# Altium integrated library dreamViewMotionRelease.IntLib: 24 symbols
Pins are listed as number, name and electrical type; pins without a type are passive.

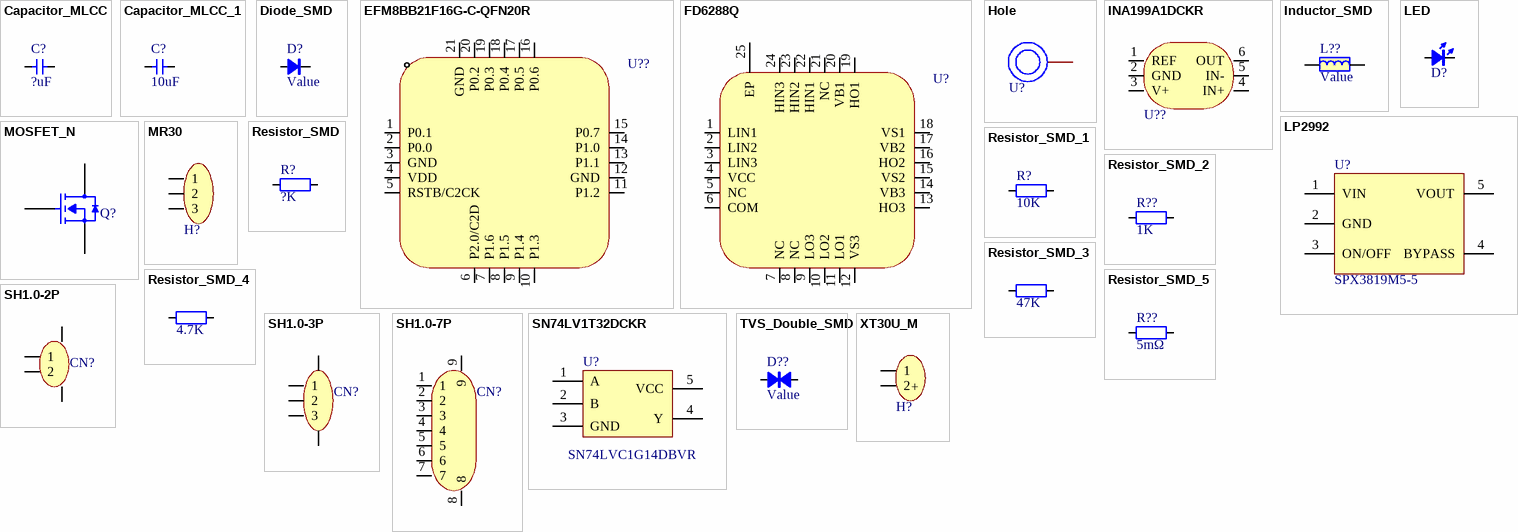
[diagram p0: symbols Capacitor_MLCC to XT30U_M]

## Capacitor_MLCC
designator C?, comment ?uF
Capacitor_MLCC
footprint CAP_0402
footprint CAP_1206
pins: 1, 2

## Capacitor_MLCC_1
designator C?, comment 10uF
Capacitor_MLCC
footprint CAP_0402
footprint CAP_1206
pins: 1, 2

## Diode_SMD
designator D?, comment Value
Diode_SMD; Value: color?
footprint SOD_323
footprint SMA
footprint SMBJ-CA_MFG (无极性SMB)
pins: 1 A, 2 K

## EFM8BB21F16G-C-QFN20R
designator U??  (value not drawn)
CPU内核:51系列;CPU最大主频:50MHz;工作电压范围:2.2V~3.6V;内部振荡器:有;程序 FLASH容量:16K@x8bit;RAM总容量:2.25KB;EEPROM/数据 FLASH容量:-;GPIO端口数量:16;ADC(单元数/通道数/位数):1@x15ch/12bit;外设/功能/协议栈:欠压检测/复位；看门狗；POR；PWM;工作温度范围:-40℃~+85℃;; Manufacturer: SILICON LABS(芯科); Add into BOM: yes; CPU Core: 51系列; Maximum Frequency: 50MHz; Internal Oscillator: 有; RAM Size: 2.25KB; GPIO Ports Number: 16; Name: EFM8BB21F16G-C-QFN20R; Symbol: EFM8BB21F16G-C-QFN20; Device: EFM8BB21F16G-C-QFN20R; LCSC Part Name: 51系列 50MHz 闪存：16K@x8bit RAM：2.25KB; Supplier Part: C80713; Manufacturer Part: EFM8BB21F16G-C-QFN20R; Supplier Footprint: QFN-20; JLCPCB Part Class: 扩展库; Datasheet: https://atta.szlcsc.com/upload/public/pdf/source/20160823/1471947533781.pdf; Supplier: LCSC; Convert to PCB: yes; Supply Voltage Range: 2.2V~3.6V; Program FLASH Size: 16K@x8bit; EEPROM/Data FLASH Size: -; ADC (Units/Channels/bits): 1@x15ch/12bit; Peripherals / Functions / Protocol Stacks: 欠压检测/复位；看门狗；POR；PWM; Operating Temperature Range: -40℃~+85℃
footprint QFN-20_L3.0-W3.0-P0.50-BL-EP1.7_EFM8BB21F16G
pins: 1 P0.1, 2 P0.0, 3 GND, 4 VDD, 5 RSTB/C2CK, 6 P2.0/C2D, 7 P1.6, 8 P1.5, 9 P1.4, 10 P1.3, 11 P1.2, 12 GND, 13 P1.1, 14 P1.0, 15 P0.7, 16 P0.6, 17 P0.5, 18 P0.4, 19 P0.3, 20 P0.2, 21 GND

## FD6288Q
designator U?  (value not drawn)
Manufacturer: Fortior Tech(峰岹); Symbol: FD6288Q_C328453; Add into BOM: yes; Name: FD6288Q; Device: FD6288Q; LCSC Part Name: FD6288Q; Supplier Part: C328453; Manufacturer Part: FD6288Q; Supplier Footprint: QFN-24-EP(4x4); JLCPCB Part Class: 扩展库; Datasheet: https://atta.szlcsc.com/upload/public/pdf/source/20181108/C328453_785547738DB9FC0123219FC22539EFAD.pdf; Supplier: LCSC; Convert to PCB: yes
footprint QFN-24_L4.0-W4.0-P0.50-BL-EP2.6
pins: 1 LIN1, 2 LIN2, 3 LIN3, 4 VCC, 5 NC, 6 COM, 7 NC, 8 NC, 9 LO3, 10 LO2, 11 LO1, 12 VS3, 13 HO3, 14 VB3, 15 VS2, 16 HO2, 17 VB2, 18 VS1, 19 HO1, 20 VB1, 21 NC, 22 HIN1, 23 HIN2, 24 HIN3, 25 EP

## Hole
designator U?, comment 螺柱孔  (value not drawn)
Symbol: M2螺柱孔; Add into BOM: yes; _: 3; Device: M2螺柱孔; Convert to PCB: yes
footprint M2 (M2螺孔)
footprint M1 (M1螺孔)
footprint M1-Unmetal (M1螺孔)
pins: 1

## INA199A1DCKR
designator U??  (value not drawn)
INA199 26V、双向、零漂移、低侧/高侧、电压输出分流监控器; Manufacturer: TI(德州仪器); Add into BOM: yes; Name: INA199A1DCKR; Symbol: INA199A1DCKR; Device: INA199A1DCKR; LCSC Part Name: INA199A1DCKR; Supplier Part: C59135; Manufacturer Part: INA199A1DCKR; Supplier Footprint: SC-70-6(SOT-363); JLCPCB Part Class: 扩展库; Datasheet: https://atta.szlcsc.com/upload/public/pdf/source/20150921/1457707392422.pdf; Supplier: LCSC; Convert to PCB: yes
footprint SC-70-6_L2.2-W1.3-P0.65-LS2.1-BR
pins: 1 REF, 2 GND, 3 V+, 4 IN+, 5 IN-, 6 OUT

## Inductor_SMD
designator L??, comment Value
Inductor_SMD
footprint IND_2520 (IND_L_2520)
footprint IND_CD74 (7*7*4贴片电感)
footprint IND_1206
footprint IND_0805
footprint IND-SMD_L2.0-W1.6 (L0806)
pins: 1, 2

## LED
designator D?, comment color?  (value not drawn)
LED; Value: color?
footprint LED_0402
footprint LED_0805
pins: 1 A, 2 K

## LP2992
designator U?, comment SPX3819M5-5
LP2992_LDO
footprint SOT23_5
pins: 1 VIN, 2 GND, 3 ON/OFF, 4 BYPASS, 5 VOUT

## MOSFET_N
designator Q?, comment Value  (value not drawn)
N_MOS
footprint SOT23_3 (SOT23, 3-Leads, Body 3.1x3.0mm (max), Pitch 0.95mm, IPC Medium Density)
footprint TRS-SMD_IRF7480MTRPBF (IRF7480MTRPBF)
footprint DFN-8_L5.8-W4.9-P1.27-LS6.0-BL-1
pins: 1 G, 2 S, 3 D

## MR30
designator H?  (value not drawn)
Manufacturer: AMASS(艾迈斯); Name: XT30U-M; Symbol: DC电源; Pin Type: IN; Add into BOM: yes; Device: XT30U-M; Convert to PCB: yes; Supplier Part: C99101; Supplier: LCSC; Manufacturer Part: XT30U-M; JLCPCB Part Class: 扩展库
footprint MR30_F (MR30_F_卧贴)
pins: 1, 2, 3

## Resistor_SMD
designator R?, comment ?K
Resistor_SMD; Value: 22R
footprint RES_0402
footprint RES_1206
footprint RES_2512 (2512分流器采样电阻)
pins: 1, 2

## Resistor_SMD_1
designator R?, comment 10K
Resistor_SMD; Value: 22R
footprint RES_0402
footprint RES_1206
footprint RES_2512 (2512分流器采样电阻)
pins: 1, 2

## Resistor_SMD_2
designator R??, comment 1K
Resistor_SMD; Value: 22R
footprint RES_0402
footprint RES_1206
footprint RES_2512 (2512分流器采样电阻)
pins: 1, 2

## Resistor_SMD_3
designator R??, comment 47K
Resistor_SMD; Value: 22R
footprint RES_0402
footprint RES_1206
footprint RES_2512 (2512分流器采样电阻)
footprint RES_0805
pins: 1, 2

## Resistor_SMD_4
designator R??, comment 4.7K
Resistor_SMD; Value: 22R
footprint RES_0402
footprint RES_1206
footprint RES_2512 (2512分流器采样电阻)
footprint RES_0805
pins: 1, 2

## Resistor_SMD_5
designator R??, comment 5mΩ
Resistor_SMD; Value: 22R
footprint RES_0402
footprint RES_1206
footprint RES_2512 (2512分流器采样电阻)
footprint RES_0805
pins: 1, 2

## SH1.0-2P
designator CN?, comment HDGC1002WR-S-3P  (value not drawn)
SH1.0针座卧贴 2P; Manufacturer: HDGC(华德共创); Add into BOM: yes; Name: HDGC1002WR-S-3P; Symbol: HDGC1002WR-S-3P; Device: HDGC1002WR-S-3P; LCSC Part Name: SH1.0针座卧贴 3P; Supplier Part: C2936213; Manufacturer Part: HDGC1002WR-S-3P; Supplier Footprint: SMD,P=1mm; JLCPCB Part Class: 扩展库; Datasheet: https://atta.szlcsc.com/upload/public/pdf/source/20211229/E8A09E85670B5E97244D2008A24D97FE.pdf; Supplier: LCSC; Convert to PCB: yes
footprint SH1.0_2P
pins: 1, 2, SH1, SH2

## SH1.0-3P
designator CN?, comment HDGC1002WR-S-3P  (value not drawn)
SH1.0针座卧贴 3P; Manufacturer: HDGC(华德共创); Add into BOM: yes; Name: HDGC1002WR-S-3P; Symbol: HDGC1002WR-S-3P; Device: HDGC1002WR-S-3P; LCSC Part Name: SH1.0针座卧贴 3P; Supplier Part: C2936213; Manufacturer Part: HDGC1002WR-S-3P; Supplier Footprint: SMD,P=1mm; JLCPCB Part Class: 扩展库; Datasheet: https://atta.szlcsc.com/upload/public/pdf/source/20211229/E8A09E85670B5E97244D2008A24D97FE.pdf; Supplier: LCSC; Convert to PCB: yes
footprint SH1.0_3P
pins: 1, 2, 3, SH1, SH2

## SH1.0-7P
designator CN?, comment HDGC1002WR-S-7P  (value not drawn)
SH1.0针座卧贴 7P; Manufacturer: HDGC(华德共创); Add into BOM: yes; Name: HDGC1002WR-S-7P; Symbol: HDGC1002WR-S-7P; Device: HDGC1002WR-S-7P; LCSC Part Name: SH1.0针座卧贴 7P; Supplier Part: C5175296; Manufacturer Part: HDGC1002WR-S-7P; Supplier Footprint: SMD,P=1mm; JLCPCB Part Class: 扩展库; Datasheet: https://atta.szlcsc.com/upload/public/pdf/source/20220916/BAB1FBE762C51A6AFF93A047416729EC.pdf; Supplier: LCSC; Convert to PCB: yes
footprint SH1.0_7P
pins: 1, 2, 3, 4, 5, 6, 7, 8, 9

## SN74LV1T32DCKR
designator U?, comment SN74LVC1G14DBVR
正非门
footprint SOT23_5
pins: 1 A, 2 B, 3 GND, 4 Y, 5 VCC

## TVS_Double_SMD
designator D??, comment Value
双向TVS; Value: color?
footprint SOD_323
footprint SMBJ-CA_MFG (无极性SMB)
footprint SMA
pins: 1 A, 2 K

## XT30U_M
designator H?  (value not drawn)
Manufacturer: AMASS(艾迈斯); Name: XT30U-M; Symbol: DC电源; Pin Type: IN; Add into BOM: yes; Device: XT30U-M; Convert to PCB: yes; Supplier Part: C99101; Supplier: LCSC; Manufacturer Part: XT30U-M; JLCPCB Part Class: 扩展库
footprint XT30U_M_Null (XT30焊盘_不包含3D)
pins: 1, 2
text: +